# Altium footprint library PCB - CONNECTOR - WURTH - WURTH WE-PHD 61001018221.PcbLib: 1 footprints
Each footprint in its own frame and in the unit in brackets; x right, y up, seen from the top. Pads: shape width x height; smd on the part's side, far side on the other; paste and mask are expansions set on the pad; w line width, h text height; cw(c..) or ccw(c..) is an arc to the next point about the centre after c.
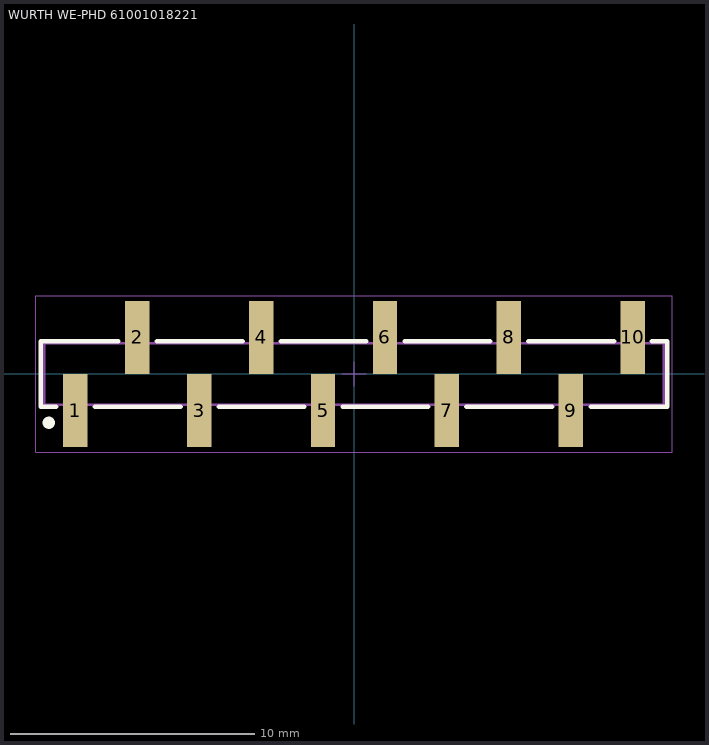
[diagram p0: the footprint, top view; thin cyan lines are the x and y axes]

## WURTH WE-PHD 61001018221 [mm] "Pin Header, pitch 2.54 mm, SMD, Vertical, single row, 10p"
height 9.3
pads (10):
  rect 1x3 smd: 1(-11.43,-1.5) 2(-8.89,1.5) 3(-6.35,-1.5) 4(-3.81,1.5) 5(-1.27,-1.5) 6(1.27,1.5) 7(3.81,-1.5) 8(6.35,1.5) 9(8.89,-1.5) 10(11.43,1.5)
Top Overlay:
  circle w0.25: c-12.52,-2 r0.125
  lines w0.2: -12.22,-1.345 -12.85,-1.345 -12.85,1.345 -9.67,1.345 ; -10.62,-1.345 -7.12,-1.345 ; -8.08,1.345 -4.58,1.345 ; -5.54,-1.345 -2.04,-1.345 ; -3,1.345 0.5,1.345 ; -0.46,-1.345 3.04,-1.345 ; 2.08,1.345 5.58,1.345 ; 4.62,-1.345 8.12,-1.345 ; 7.16,1.345 10.66,1.345 ; 9.72,-1.345 12.85,-1.345 12.85,1.345 12.22,1.345
Top Component Outline:
  lines w0.1: -11.75,-1.27 -11.75,-2.5 -11.11,-2.5 -11.11,-1.27 ; -9.21,1.27 -9.21,2.5 -8.57,2.5 -8.57,1.27 ; -6.67,-1.27 -6.67,-2.5 -6.03,-2.5 -6.03,-1.27 ; -4.13,1.27 -4.13,2.5 -3.49,2.5 -3.49,1.27 ; -1.59,-1.27 -1.59,-2.5 -0.95,-2.5 -0.95,-1.27 ; 0.95,1.27 0.95,2.5 1.59,2.5 1.59,1.27 ; 3.49,-1.27 3.49,-2.5 4.13,-2.5 4.13,-1.27 ; 6.03,1.27 6.03,2.5 6.67,2.5 6.67,1.27 ; 8.57,-1.27 8.57,-2.5 9.21,-2.5 9.21,-1.27 ; 11.11,1.27 11.11,2.5 11.75,2.5 11.75,1.27 ; -12.7,-1.27 12.7,-1.27 12.7,1.27 -12.7,1.27 -12.7,-1.27
Top Courtyard:
  lines w0.05: -13.05,-3.2 13.05,-3.2 13.05,3.2 -13.05,3.2 -13.05,-3.2
Top Component Center:
  lines w0.05: -0.5,0 0.5,0 ; 0,-0.5 0,0.5
3D body "WURTH WE-PHD 61001018221.step": height 9.33, standoff 0, extent -12.7,-2.5 12.7,2.5